# Altium footprint library Common Devices.PcbLib: 30 footprints (part 2 of 2)
Each footprint in its own frame and in the unit in brackets; x right, y up, seen from the top. Pads: shape width x height; smd on the part's side, far side on the other; paste and mask are expansions set on the pad; w line width, h text height; cw(c..) or ccw(c..) is an arc to the next point about the centre after c.
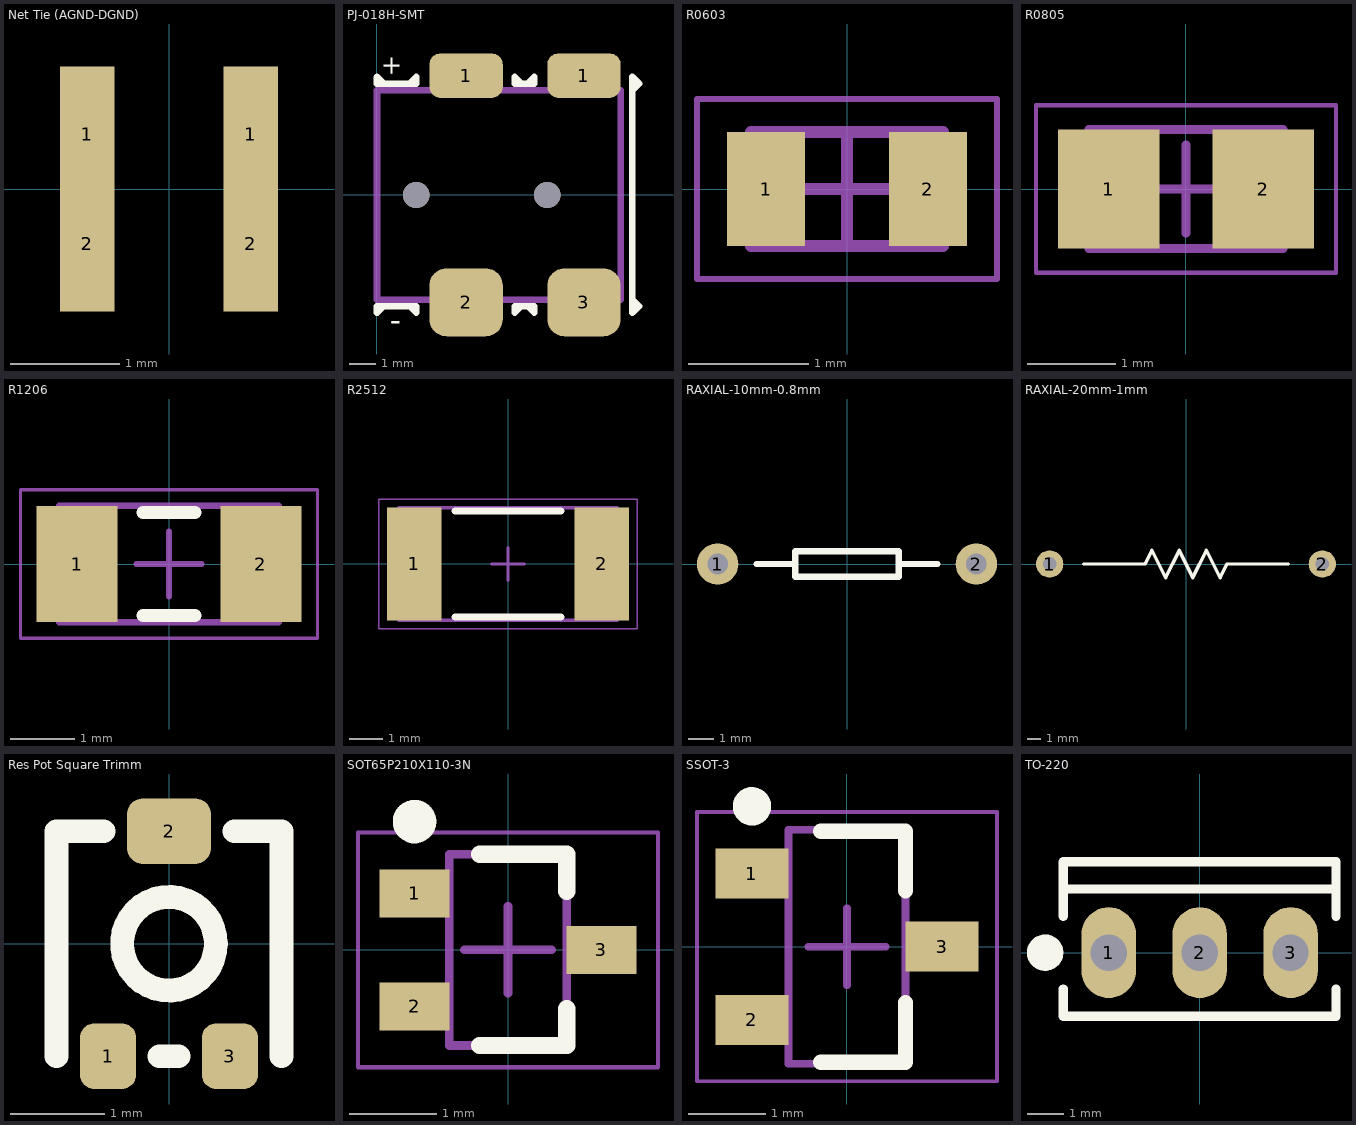
[diagram p1: the footprints below, top view; thin cyan lines are the x and y axes]

## Net Tie (AGND-DGND) [mm] "Net Tie"
pads (4):
  rect 0.5x1.25 smd paste-1: 1(-0.75,0.5) 1(0.75,0.5) 2(-0.75,-0.5) 2(0.75,-0.5)
Top Layer:
  lines w0.125: -0.75,-0.125 -0.75,0.125 ; 0.75,-0.125 0.75,0.125

## PJ-018H-SMT [mm] "DC Power Plug - 4.0 mmOD / 1.7 mmID"
height 5.5
pads (4):
  rrect50% 2.8x1.7 smd: 1(3.4,4.55) 1(7.9,4.55)
  rrect50% 2.8x2.6 smd: 2(3.4,-4.1) 3(7.9,-4.1)
via 6.5,0 diameter 1 hole 1
via 1.5,0 diameter 1 hole 1
Top Overlay:
  lines w0.25: 0,-4.5 0,-4.25 0.25,-4.25 ; 0,-4.5 0.25,-4.25 ; 0,-4.5 0,-4.5 ; 0,4.5 0,4.5 ; 0,4.5 0.25,4.25 ; 0,4.5 0,4.25 0.25,4.25 ; 0.25,-4.25 1.25,-4.25 ; 0.25,4.25 1.25,4.25 ; 1.25,-4.25 1.5,-4.25 1.5,-4.5 1.25,-4.25 ; 1.25,4.25 1.5,4.5 1.5,4.25 1.25,4.25 ; 5.25,-4.5 5.25,-4.5 ; 5.25,-4.5 5.5,-4.25 ; 5.25,-4.5 5.25,-4.25 5.5,-4.25 ; 5.25,4.5 5.25,4.25 5.5,4.25 ; 5.25,4.5 5.5,4.25 ; 5.25,4.5 5.25,4.5 ; 5.5,-4.25 5.75,-4.25 ; 5.5,4.25 5.75,4.25 ; 5.75,-4.25 6,-4.5 6,-4.25 5.75,-4.25 ; 5.75,4.25 6,4.25 6,4.5 5.75,4.25 ; 9.75,-4 9.75,-4.5 10,-4.25 9.75,-4 ; 9.75,-4 9.75,4 ; 9.75,4 9.75,4.5 10,4.25 9.75,4
  text "+" at 1.118,4.5 h1.25
  text "-" at 0.934,-4.25 h1.5
Mechanical 15:
  lines w0.25: 0,-4 0,4 9.3,4 9.3,-4 0,-4
3D body: height 3.7, standoff 1.9, extent 1.2,0.4 6.2,2.2
3D body: height 5, standoff 0.7, extent 6.2,-0.9 9.3,3.5
3D body: height 0.2, standoff 0, extent 7.1,-5 8.7,-2.8
3D body: height 0.2, standoff 0, extent 2.6,-5 4.2,-2.8
3D body: height 0.2, standoff 0, extent 2.6,3.7 4.2,5
3D body: height 0.2, standoff 0, extent 7.1,3.7 8.7,5
3D body: height 5.5, standoff 0.2, extent 0,3.5 9.3,4
3D body: height 5.5, standoff 0.2, extent 0,-4 9.3,-0.9
3D body: height 0.7, standoff 0.2, extent 0,-0.9 9.3,3.5
3D body: height 5.5, standoff 5, extent 0,-0.9 9.3,3.5
3D body: height 0.2, standoff -0.6, extent 1.101,-0.4 1.9,0.4
3D body: height 0.2, standoff -0.6, extent 6.101,-0.4 6.9,0.4

## R0603 [mm] "Chip Resistor, 2-Leads, Body 1,55x0,85mm, IPC Medium Density"
height 0.5
pads (2):
  rect 0.65x0.95 smd: 1(-0.675,0) 2(0.675,0)
Mechanical 13:
  lines w0.1: -0.8,-0.475 -0.8,0.475 0.8,0.475 0.8,-0.475 -0.8,-0.475
Mechanical 15:
  lines w0.05: -1.25,-0.75 -1.25,0.75 1.25,0.75 1.25,-0.75 -1.25,-0.75
  lines w0.1: -0.475,0 0.475,0 ; 0,-0.475 0,0.475
3D body: height 0.5, standoff 0, extent -0.5,-0.475 0.5,0.475
3D body: height 0.5, standoff 0, extent -0.8,-0.475 -0.5,0.475
3D body: height 0.5, standoff 0, extent 0.5,-0.475 0.8,0.475

## R0805 [mm] "Chip Resistor, 2-Leads, Body 2,00x1,25mm, IPC Medium Density"
height 0.7
pads (2):
  rect 1.15x1.35 smd: 1(-0.875,0) 2(0.875,0)
Mechanical 13:
  lines w0.1: -1.1,-0.675 -1.1,0.675 1.1,0.675 1.1,-0.675 -1.1,-0.675
Mechanical 15:
  lines w0.05: -1.7,-0.95 -1.7,0.95 1.7,0.95 1.7,-0.95 -1.7,-0.95
  lines w0.1: -0.5,0 0.5,0 ; 0,-0.5 0,0.5
3D body: height 0.7, standoff 0, extent -0.7,-0.675 0.7,0.675
3D body: height 0.7, standoff 0, extent -1.1,-0.675 -0.7,0.675
3D body: height 0.7, standoff 0, extent 0.7,-0.675 1.1,0.675

## R1206 [mm] "Chip Resistor, 2-Leads, Body 3,20x1,60mm, IPC Medium Density"
height 0.7
pads (2):
  rect 1.25x1.8 smd: 1(-1.425,0) 2(1.425,0)
Top Overlay:
  lines w0.2: -0.4,-0.8 0.4,-0.8 ; -0.4,0.8 0.4,0.8
Mechanical 13:
  lines w0.1: -1.7,-0.9 -1.7,0.9 1.7,0.9 1.7,-0.9 -1.7,-0.9
Mechanical 15:
  lines w0.05: -2.3,-1.15 -2.3,1.15 2.3,1.15 2.3,-1.15 -2.3,-1.15
  lines w0.1: -0.5,0 0.5,0 ; 0,-0.5 0,0.5
3D body: height 0.7, standoff 0, extent -1.2,-0.9 1.2,0.9
3D body: height 0.7, standoff 0, extent -1.7,-0.9 -1.2,0.9
3D body: height 0.7, standoff 0, extent 1.2,-0.9 1.7,0.9

## R2512 [mm] "Chip Resistor, 2-Leads, Body 6,40x3,20mm, IPC Medium Density"
height 0.9
pads (2):
  rect 1.65x3.4 smd: 1(-2.825,0) 2(2.825,0)
Top Overlay:
  lines w0.2: -1.6,-1.6 1.6,-1.6 ; -1.6,1.6 1.6,1.6
Mechanical 13:
  lines w0.1: -3.3,-1.7 3.3,-1.7 3.3,1.7 -3.3,1.7 -3.3,-1.7
Mechanical 15:
  lines w0.05: -3.9,-1.95 3.9,-1.95 3.9,1.95 -3.9,1.95 -3.9,-1.95
  lines w0.1: -0.5,0 0.5,0 ; 0,-0.5 0,0.5
3D body: height 0.9, standoff 0, extent 2.4,-1.7 3.3,1.7
3D body: height 0.9, standoff 0, extent -3.3,-1.7 -2.4,1.7
3D body: height 0.9, standoff 0, extent -2.4,-1.7 2.4,1.7

## RAXIAL-10mm-0.8mm [mm] "Axial 3W resistor"
height 2.5
pads (2):
  round 1.6 hole 0.8: 1(-5,0) 2(5,0)
Top Overlay:
  lines w0.25: -3.5,0 -2,0 ; 2,0 3.5,0 ; -2,-0.5 -2,0.5 2,0.5 2,-0.5 -2,-0.5

## RAXIAL-20mm-1mm [mm] "Axial 3W resistor"
height 5.5
pads (2):
  round 2 hole 1: 1(-10,0) 2(10,0)
Top Overlay:
  lines w0.254: -7.5,0 -3,0 -2.5,1 -1.5,-1 -0.5,1 0.5,-1 1.5,1 2.5,-1 3,0 7.5,0

## Res Pot Square Trimm [mm]
height 1
pads (3):
  rrect50% 0.6x0.7 smd: 1(-0.65,-1.2) 3(0.65,-1.2)
  rrect50% 0.9x0.7 smd: 2(0,1.2)
Top Overlay:
  circle w0.254: c0,0 r0.5
  lines w0.254: -1.2,-1.2 -1.2,0 -1.2,1.2 -0.7,1.2 ; -0.1,-1.2 0.1,-1.2 ; 0.7,1.2 1.2,1.2 1.2,-1.2

## SOT65P210X110-3N [mm] "SOT23, 3-Leads, Body 2,00x2,10mm, Pitch 0,65mm, IPC Medium Density"
height 1.1
pads (3):
  rect 0.8x0.55 smd: 1(-1.075,0.65) 2(-1.075,-0.65) 3(1.075,0)
Top Overlay:
  circle w0.25: c-1.075,1.475 r0.125
  lines w0.2: -0.325,-1.1 0.675,-1.1 0.675,-0.675 ; -0.325,1.1 0.675,1.1 0.675,0.675
Mechanical 13:
  lines w0.1: -0.675,-1.1 -0.675,1.1 0.675,1.1 0.675,-1.1 -0.675,-1.1
Mechanical 15:
  lines w0.05: -1.725,-1.35 -1.725,1.35 1.725,1.35 1.725,-1.35 -1.725,-1.35
  lines w0.1: -0.5,0 0.5,0 ; 0,-0.5 0,0.5
3D body: height 1.1, standoff 0, extent -0.675,-1.1 0.675,1.1

## Spacer 7mm M3x0.5 Screw [mm] "PCB Spacer mm M3x0.5 Screw"
height 13
3D body: height 0, standoff -6, extent -1.488,-1.497 1.5,1.497
3D body: height 7, standoff 0, extent -2.887,-2.5 2.887,2.5

## Spacer 11mm M3x0.5 [mm] "PCB Spacer 11mm M3x0.5"
height 11
3D body: height 11, standoff 0, extent -2.887,-2.5 2.887,2.5

## SSOT-3 [mm] "SOT23, 3-Leads, Body 2,92x2,50mm, Pitch 0,95mm, IPC Medium Density"
height 1.12
pads (3):
  rect 0.95x0.65 smd: 1(-1.235,0.95) 2(-1.235,-0.95) 3(1.235,0)
Top Overlay:
  circle w0.25: c-1.235,1.825 r0.125
  lines w0.2: -0.34,-1.5 0.76,-1.5 0.76,-0.725 ; -0.34,1.5 0.76,1.5 0.76,0.725
Mechanical 13:
  lines w0.1: -0.76,-1.52 0.76,-1.52 0.76,1.52 -0.76,1.52 -0.76,-1.52
Mechanical 15:
  lines w0.05: -1.95,-1.75 1.95,-1.75 1.95,1.75 -1.95,1.75 -1.95,-1.75
  lines w0.1: -0.5,0 0.5,0 ; 0,-0.5 0,0.5
3D body: height 1.12, standoff 0.1, extent -0.76,-1.52 0.76,1.52

## TO-220 [mm]
height 15
pads (3):
  oval 1.5x2.5 hole 1: 1(-2.5,0) 2(0,0) 3(2.5,0)
Top Overlay:
  circle w0.5: c-4.25,0 r0.25
  lines w0.254: -3.75,-1 -3.75,-1.75 3.75,-1.75 3.75,-1 ; -3.75,1 -3.75,1.75 ; 3.75,1 3.75,1.75 ; -3.75,1.75 3.75,1.75 ; -3.75,1.75 -3.75,2.5 3.75,2.5 3.75,1.75